# EAGLE library part BZA456A (library jason-test)
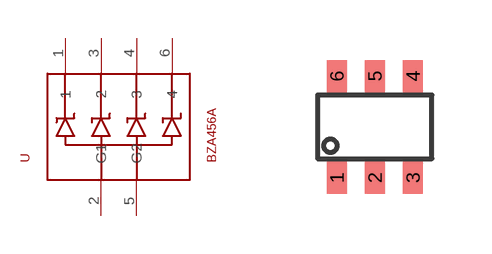
[diagram p31: symbol with the pads of SOT457; footprint SOT457]

Designator prefix -

## BZA456A  [SOT457]
1  1
2  G1  pwr
3  2
4  3
5  G2  pwr
6  4

## Footprint SOT457 (pad centres in mm)
smd 0.5 x 0.8: 1 -0.953,-1.27; 2 0,-1.27; 3 0.953,-1.27; 4 0.953,1.27; 5 0,1.27; 6 -0.953,1.27